# EAGLE library part DIL16A (library 00IC_PACKAGE2)
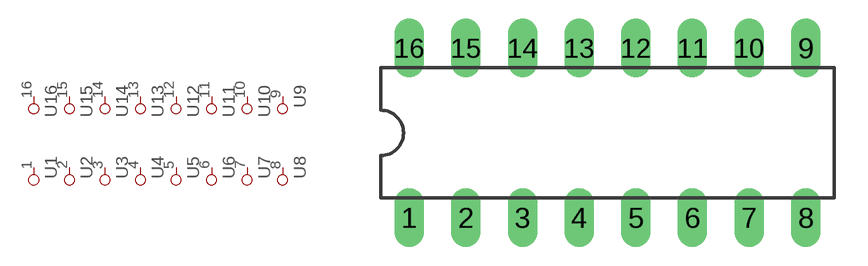
[diagram p22: symbol with the pads of DIL16A; footprint DIL16A]

Designator prefix -; gates 1=DIL16A 2=DIL16A 3=DIL16A 4=DIL16A 5=DIL16A 6=DIL16A 7=DIL16A 8=DIL16A 9=DIL16A 10=DIL16A 11=DIL16A 12=DIL16A 13=DIL16A 14=DIL16A 15=DIL16A 16=DIL16A

## DIL16A  [DIL16A]
1  1:1  pas
2  2:1  pas
3  3:1  pas
4  4:1  pas
5  5:1  pas
6  6:1  pas
7  7:1  pas
8  8:1  pas
9  9:1  pas
10  10:1  pas
11  11:1  pas
12  12:1  pas
13  13:1  pas
14  14:1  pas
15  15:1  pas
16  16:1  pas

## Footprint DIL16A (pad centres in mm)
drill 0.813 long: 1 -8.89,-3.81; 2 -6.35,-3.81; 3 -3.81,-3.81; 4 -1.27,-3.81; 5 1.27,-3.81; 6 3.81,-3.81; 7 6.35,-3.81; 8 8.89,-3.81; 9 8.89,3.81; 10 6.35,3.81; 11 3.81,3.81; 12 1.27,3.81; 13 -1.27,3.81; 14 -3.81,3.81; 15 -6.35,3.81; 16 -8.89,3.81